# Altium integrated library WE-PoEH_rev15a.intlib: 12 symbols
Pins are listed as number, name and electrical type; pins without a type are passive.

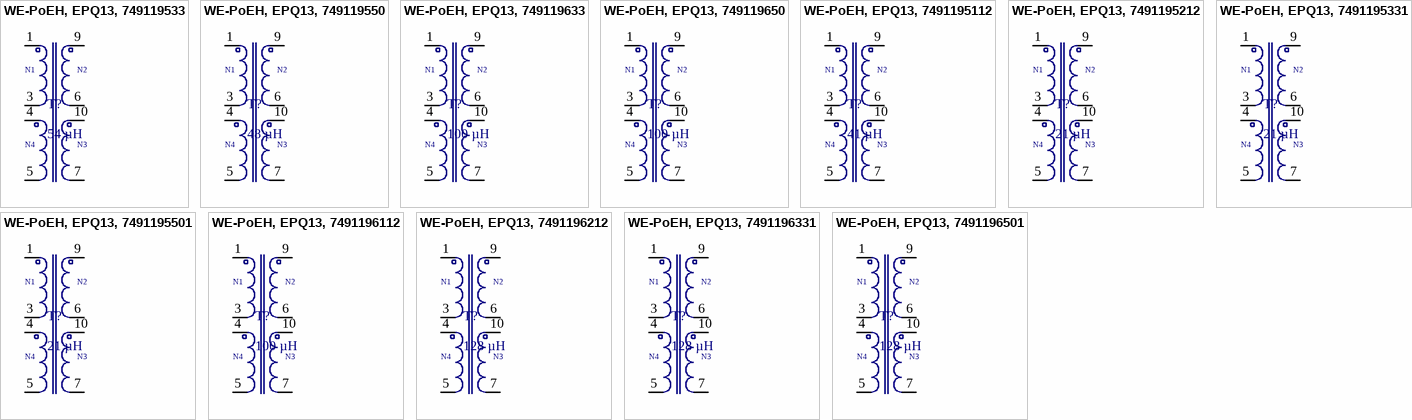
[diagram p0: symbols WE-PoEH, EPQ13, 749119533 to WE-PoEH, EPQ13, 7491196501]

## WE-PoEH, EPQ13, 749119533
designator T?, comment 54 µH
SMD FLYBACK-Transformers, WE-PoEH, L=54 µH; PartNo: 749119533; Manufacturer: Würth Elektronik eiSos GmbH; Turns Ratio: 8:1:1:3; Output votage Total: 3.3V; Output Current Total: 2 x 3.5A; Inductance: 54 µH; ComponentLink1Description: Manufacturer; ComponentLink1URL: http://www.we-online.de; Created by: Christin Otto; Created Date: Oct 2014; ComponentLink2Description: Datasheet; ComponentLink2URL: http://katalog.we-online.de/pbs/datasheet/749119533.pdf
footprint WE-PoEH EPQ13 (SMD Transformer,10Pin,Body 17.9 x14.0 mm)
pins: 1, 3, 4, 5, 6, 7, 9, 10
text: N1; N2; N4; N3

## WE-PoEH, EPQ13, 749119550
designator T?, comment 48 µH
SMD FLYBACK-Transformers, WE-PoEH, L=48 µH; PartNo: 749119550; Manufacturer: Würth Elektronik eiSos GmbH; Turns Ratio: 5.33:1:1:2; Output votage Total: 5V; Output Current Total: 2 x 3.0A; Inductance: 48 µH; ComponentLink1Description: Manufacturer; ComponentLink1URL: http://www.we-online.de; Created by: Christin Otto; Created Date: Oct 2014; ComponentLink2Description: Datasheet; ComponentLink2URL: http://katalog.we-online.de/pbs/datasheet/749119550.pdf
footprint WE-PoEH EPQ13 (SMD Transformer,10Pin,Body 17.9 x14.0 mm)
pins: 1, 3, 4, 5, 6, 7, 9, 10
text: N1; N2; N4; N3

## WE-PoEH, EPQ13, 749119633
designator T?, comment 100 µH
SMD FLYBACK-Transformers, WE-PoEH, L=100 µH; PartNo: 749119633; Manufacturer: Würth Elektronik eiSos GmbH; Turns Ratio: 6:1:1:3; Output votage Total: 3.3V; Output Current Total: 2 x 8A; Inductance: 100 µH; ComponentLink1Description: Manufacturer; ComponentLink1URL: http://www.we-online.de; Created by: Christin Otto; Created Date: Oct 2014; ComponentLink2Description: Datasheet; ComponentLink2URL: http://katalog.we-online.de/pbs/datasheet/749119633.pdf
footprint WE-PoEH EPQ13 (SMD Transformer,10Pin,Body 17.9 x14.0 mm)
pins: 1, 3, 4, 5, 6, 7, 9, 10
text: N1; N2; N4; N3

## WE-PoEH, EPQ13, 749119650
designator T?, comment 100 µH
SMD FLYBACK-Transformers, WE-PoEH, L=100 µH; PartNo: 749119650; Manufacturer: Würth Elektronik eiSos GmbH; Turns Ratio: 4:1:1:2; Output votage Total: 5V; Output Current Total: 2 x 7A; Inductance: 100 µH; ComponentLink1Description: Manufacturer; ComponentLink1URL: http://www.we-online.de; Created by: Christin Otto; Created Date: Oct 2014; ComponentLink2Description: Datasheet; ComponentLink2URL: http://katalog.we-online.de/pbs/datasheet/749119650.pdf
footprint WE-PoEH EPQ13 (SMD Transformer,10Pin,Body 17.9 x14.0 mm)
pins: 1, 3, 4, 5, 6, 7, 9, 10
text: N1; N2; N4; N3

## WE-PoEH, EPQ13, 7491195112
designator T?, comment 41 µH
SMD FLYBACK-Transformers, WE-PoEH, L=41 µH; PartNo: 7491195112; Manufacturer: Würth Elektronik eiSos GmbH; Turns Ratio: 2.67:1:1:1; Output votage Total: 12V; Output Current Total: 2 x 1.5A; Inductance: 41 µH; ComponentLink1Description: Manufacturer; ComponentLink1URL: http://www.we-online.de; Created by: Christin Otto; Created Date: Oct 2014; ComponentLink2Description: Datasheet; ComponentLink2URL: http://katalog.we-online.de/pbs/datasheet/7491195112.pdf
footprint WE-PoEH EPQ13 (SMD Transformer,10Pin,Body 17.9 x14.0 mm)
pins: 1, 3, 4, 5, 6, 7, 9, 10
text: N1; N2; N4; N3

## WE-PoEH, EPQ13, 7491195212
designator T?, comment 21 µH
SMD FLYBACK-Transformers, WE-PoEH, L=21 µH; PartNo: 7491195212; Manufacturer: Würth Elektronik eiSos GmbH; Turns Ratio: 1.33:1:1:0.89; Output votage Total: 12V; Output Current Total: 2 x 1A; Inductance: 21 µH; ComponentLink1Description: Manufacturer; ComponentLink1URL: http://www.we-online.de; Created by: Christin Otto; Created Date: Oct 2014; ComponentLink2Description: Datasheet; ComponentLink2URL: http://katalog.we-online.de/pbs/datasheet/7491195212.pdf
footprint WE-PoEH EPQ13 (SMD Transformer,10Pin,Body 17.9 x14.0 mm)
pins: 1, 3, 4, 5, 6, 7, 9, 10
text: N1; N2; N4; N3

## WE-PoEH, EPQ13, 7491195331
designator T?, comment 21 µH
SMD FLYBACK-Transformers, WE-PoEH, L=21 µH; PartNo: 7491195331; Manufacturer: Würth Elektronik eiSos GmbH; Turns Ratio: 4:1:1:3; Output votage Total: 3.3V; Output Current Total: 2 x 3.2A; Inductance: 21 µH; ComponentLink1Description: Manufacturer; ComponentLink1URL: http://www.we-online.de; Created by: Christin Otto; Created Date: Oct 2014; ComponentLink2Description: Datasheet; ComponentLink2URL: http://katalog.we-online.de/pbs/datasheet/7491195331.pdf
footprint WE-PoEH EPQ13 (SMD Transformer,10Pin,Body 17.9 x14.0 mm)
pins: 1, 3, 4, 5, 6, 7, 9, 10
text: N1; N2; N4; N3

## WE-PoEH, EPQ13, 7491195501
designator T?, comment 21 µH
SMD FLYBACK-Transformers, WE-PoEH, L=21 µH; PartNo: 7491195501; Manufacturer: Würth Elektronik eiSos GmbH; Turns Ratio: 3:1:1:2; Output votage Total: 5V; Output Current Total: 2 x 2.2A; Inductance: 21 µH; ComponentLink1Description: Manufacturer; ComponentLink1URL: http://www.we-online.de; Created by: Christin Otto; Created Date: Oct 2014; ComponentLink2Description: Datasheet; ComponentLink2URL: http://katalog.we-online.de/pbs/datasheet/7491195501.pdf
footprint WE-PoEH EPQ13 (SMD Transformer,10Pin,Body 17.9 x14.0 mm)
pins: 1, 3, 4, 5, 6, 7, 9, 10
text: N1; N2; N4; N3

## WE-PoEH, EPQ13, 7491196112
designator T?, comment 100 µH
SMD FLYBACK-Transformers, WE-PoEH, L=100 µH; PartNo: 7491196112; Manufacturer: Würth Elektronik eiSos GmbH; Turns Ratio: 1.71:1:1:0.86; Output votage Total: 12V; Output Current Total: 2 x 2.5A; Inductance: 100 µH; ComponentLink1Description: Manufacturer; ComponentLink1URL: http://www.we-online.de; Created by: Christin Otto; Created Date: Oct 2014; ComponentLink2Description: Datasheet; ComponentLink2URL: http://katalog.we-online.de/pbs/datasheet/7491196112.pdf
footprint WE-PoEH EPQ13 (SMD Transformer,10Pin,Body 17.9 x14.0 mm)
pins: 1, 3, 4, 5, 6, 7, 9, 10
text: N1; N2; N4; N3

## WE-PoEH, EPQ13, 7491196212
designator T?, comment 128 µH
SMD FLYBACK-Transformers, WE-PoEH, L=128 µH; PartNo: 7491196212; Manufacturer: Würth Elektronik eiSos GmbH; Turns Ratio: 0.47:1:1:0.82; Output votage Total: 12V; Output Current Total: 2 x 1.6A; Inductance: 128 µH; ComponentLink1Description: Manufacturer; ComponentLink1URL: http://www.we-online.de; Created by: Christin Otto; Created Date: Oct 2014; ComponentLink2Description: Datasheet; ComponentLink2URL: http://katalog.we-online.de/pbs/datasheet/7491196212.pdf
footprint WE-PoEH EPQ13 (SMD Transformer,10Pin,Body 17.9 x14.0 mm)
pins: 1, 3, 4, 5, 6, 7, 9, 10
text: N1; N2; N4; N3

## WE-PoEH, EPQ13, 7491196331
designator T?, comment 128 µH
SMD FLYBACK-Transformers, WE-PoEH, L=128 µH; PartNo: 7491196331; Manufacturer: Würth Elektronik eiSos GmbH; Turns Ratio: 3.2:1:1:2.8; Output votage Total: 3.3V; Output Current Total: 2 x 5.5A; Inductance: 128 µH; ComponentLink1Description: Manufacturer; ComponentLink1URL: http://www.we-online.de; Created by: Christin Otto; Created Date: Oct 2014; ComponentLink2Description: Datasheet; ComponentLink2URL: http://katalog.we-online.de/pbs/datasheet/7491196331.pdf
footprint WE-PoEH EPQ13 (SMD Transformer,10Pin,Body 17.9 x14.0 mm)
pins: 1, 3, 4, 5, 6, 7, 9, 10
text: N1; N2; N4; N3

## WE-PoEH, EPQ13, 7491196501
designator T?, comment 128 µH
SMD FLYBACK-Transformers, WE-PoEH, L=128 µH; PartNo: 7491196501; Manufacturer: Würth Elektronik eiSos GmbH; Turns Ratio: 1.14:1:1:2; Output votage Total: 5V; Output Current Total: 2 x 3.5A; Inductance: 128 µH; ComponentLink1Description: Manufacturer; ComponentLink1URL: http://www.we-online.de; Created by: Christin Otto; Created Date: Oct 2014; ComponentLink2Description: Datasheet; ComponentLink2URL: http://katalog.we-online.de/pbs/datasheet/7491196501.pdf
footprint WE-PoEH EPQ13 (SMD Transformer,10Pin,Body 17.9 x14.0 mm)
pins: 1, 3, 4, 5, 6, 7, 9, 10
text: N1; N2; N4; N3